# Altium footprint library 690357282076.PcbLib: 1 footprints
Each footprint in its own frame and in the unit in brackets; x right, y up, seen from the top. Pads: shape width x height; smd on the part's side, far side on the other; paste and mask are expansions set on the pad; w line width, h text height; cw(c..) or ccw(c..) is an arc to the next point about the centre after c.
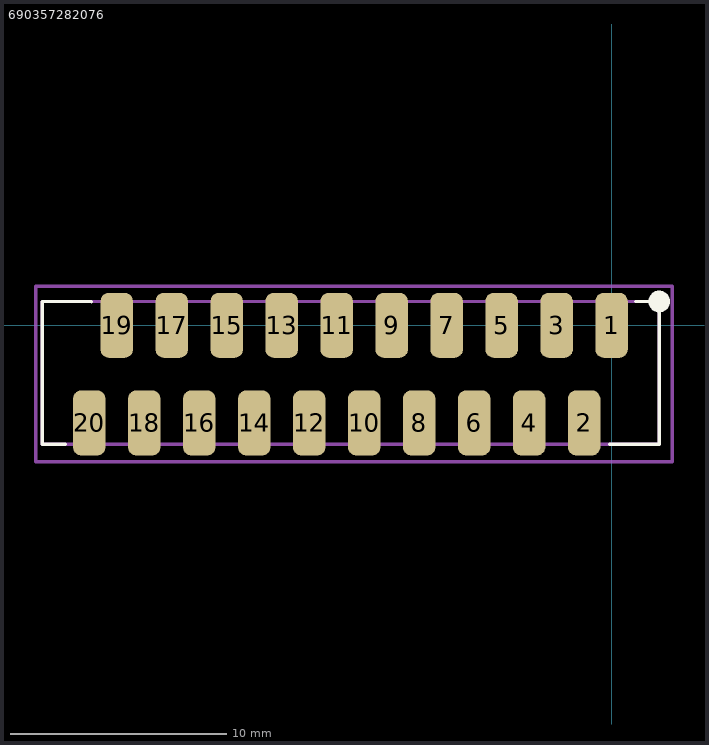
[diagram p0: the footprint, top view; thin cyan lines are the x and y axes]

## 690357282076 [mm] "WR-MM series 20 pin male conector"
pads (20):
  rrect50% 1.5x3 smd mask+0.07: 1(0,0) 2(-1.27,-4.51) 3(-2.54,0) 4(-3.81,-4.51) 5(-5.08,0) 6(-6.35,-4.51) 7(-7.62,0) 8(-8.89,-4.51) 9(-10.16,0) 10(-11.43,-4.51) 11(-12.7,0) 12(-13.97,-4.51) 13(-15.24,0) 14(-16.51,-4.51) 15(-17.78,0) 16(-19.05,-4.51) 17(-20.32,0) 18(-21.59,-4.51) 19(-22.86,0) 20(-24.13,-4.51)
Top Overlay:
  circle w0.5: c2.2,1.1 r0.25
  lines w0.15: -25.23,-5.5 -26.3,-5.5 -26.3,1.1 -24.03,1.09 ; -0.1,-5.5 1.6,-5.5 2.2,-5.5 2.2,1.1 1.1,1.1
Top Assembly:
  lines w0.15: -26.3,-5.5 2.2,-5.5 2.2,1.1 -26.3,1.1 -26.3,-5.5
Top Courtyard:
  lines w0.15: -26.6,-6.3 2.8,-6.3 2.8,1.8 -26.6,1.8 -26.6,-6.3
3D body "690357282076 (rev1).stp": height 5.15, standoff 0, extent -26.28,-5.455 2.15,1.045